# Altium footprint library Plain Ji_PCB_Lib.PcbLib: 31 footprints (part 1 of 2)
Each footprint in its own frame and in the unit in brackets; x right, y up, seen from the top. Pads: shape width x height; smd on the part's side, far side on the other; paste and mask are expansions set on the pad; w line width, h text height; cw(c..) or ccw(c..) is an arc to the next point about the centre after c.
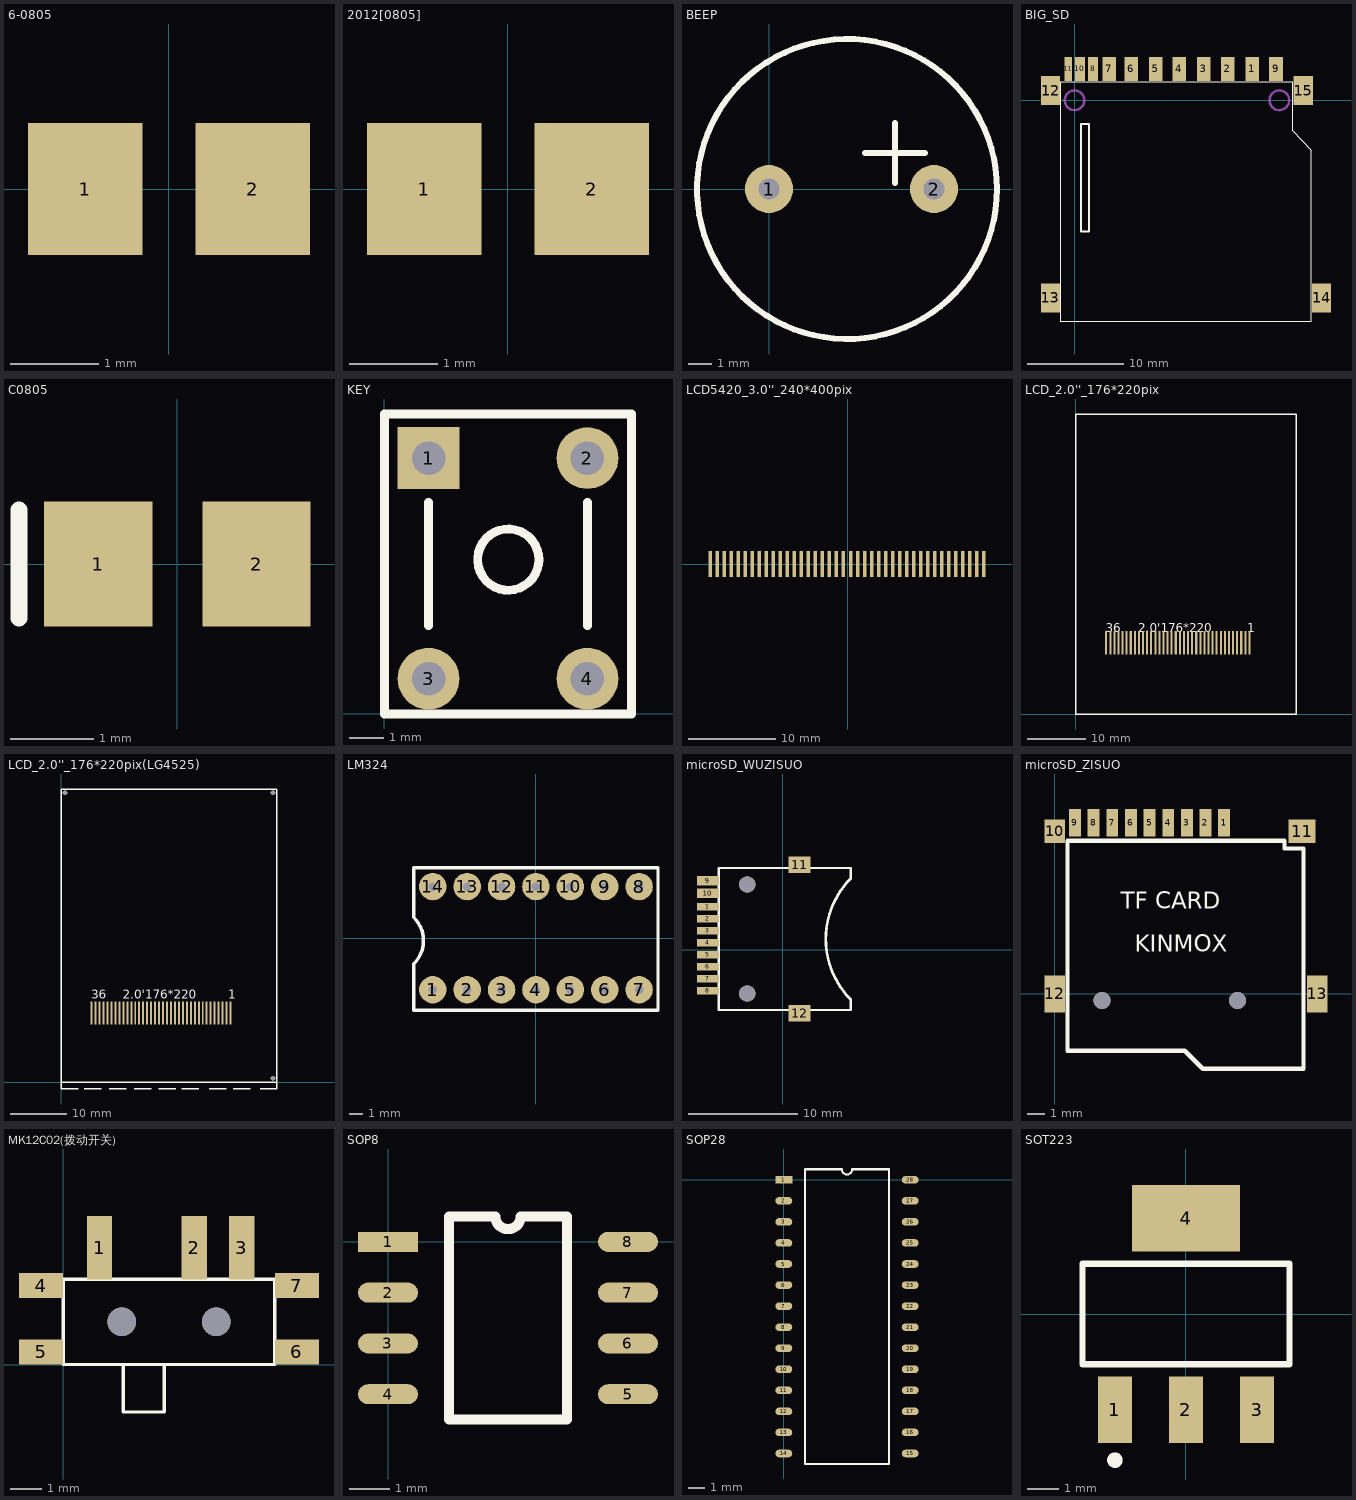
[diagram p0: the footprints below, top view; thin cyan lines are the x and y axes]

## 6-0805 [mm]
pads (2):
  rect 1.3x1.5 smd: 1(-0.95,0) 2(0.95,0)

## 2012[0805] [mm]
pads (2):
  rect 1.3x1.5 smd: 1(-0.95,0) 2(0.95,0)

## BEEP [mil]
pads (2):
  round 80 hole 35: 1(0,0) 2(275,0)
Top Overlay:
  circle w10: c130,0 r250
  lines w10: 160,60 260,60 ; 210,10 210,110

## BIG_SD [mm]
pads (15):
  rect 1.4x2.5 smd: 1(18.388,3.239) 2(15.888,3.239) 3(13.388,3.239) 4(10.863,3.239) 5(8.388,3.239) 6(5.863,3.239) 7(3.613,3.239) 9(20.863,3.239)
  rect 1x2.5 smd: 8(1.913,3.239) 10(0.563,3.239)
  rect 0.8x2.5 smd: 11(-0.662,3.239)
  rect 2x3 smd: 12(-2.486,0.989) 13(-2.491,-20.454) 14(25.576,-20.454) 15(23.682,0.989)
Top Overlay:
  lines w0.127: -1.475,-22.867 24.51,-22.867 24.51,-5.163 ; -1.424,-22.867 -1.424,1.924 22.615,1.924 22.615,-0.909 ; -1.418,-17.834 -1.418,-15.334 ; 22.615,1.325 22.615,-3.175 24.51,-5.175
  lines w0.2: 0.651,-13.61 0.651,-2.46 0.671,-2.44 1.491,-2.44 1.491,-13.61 0.651,-13.61
Mechanical 1:
  circle w0.254: c21.209,0 r1.016
  circle w0.254: c0,0 r1.016

## C0805 [mm]
pads (2):
  rect 1.3x1.5 smd: 1(-0.95,0) 2(0.95,0)
Top Overlay:
  lines w0.2: -1.9,-0.65 -1.9,0.65

## KEY [mil]
pads (4):
  rect 70x70 hole 38: 1(50,290)
  round 70 hole 38: 2(230,290) 3(50,40) 4(230,40)
Top Overlay:
  circle w10: c140.31,175 r34.69
  lines w10: 50,100 50,240 ; 230,100 230,240 ; 0,0 0,340 280,340 280,0 0,0

## LCD5420_3.0''_240*400pix [mm]
pads (40):
  rect 0.4x3 smd: 1(-15.7,0) 2(-14.9,0) 3(-14.1,0) 4(-13.3,0) 5(-12.5,0) 6(-11.7,0) 7(-10.9,0) 8(-10.1,0) 9(-9.3,0) 10(-8.5,0) 11(-7.7,0) 12(-6.9,0) 13(-6.1,0) 14(-5.3,0) 15(-4.5,0) 16(-3.7,0) 17(-2.9,0) 18(-2.1,0) 19(-1.3,0) 20(-0.5,0) 21(0.3,0) 22(1.1,0) 23(1.9,0) 24(2.7,0) 25(3.5,0) 26(4.3,0) 27(5.1,0) 28(5.9,0) 29(6.7,0) 30(7.5,0) 31(8.3,0) 32(9.1,0) 33(9.9,0) 34(10.7,0) 35(11.5,0) 36(12.3,0) 37(13.1,0) 38(13.9,0) 39(14.7,0) 40(15.5,0)

## LCD_2.0''_176*220pix [mm]
pads (36):
  rect 0.35x4 smd: 1(29.69,12.2) 2(28.99,12.2) 3(28.29,12.2) 4(27.59,12.2) 5(26.89,12.2) 6(26.19,12.2) 7(25.49,12.2) 8(24.79,12.2) 9(24.09,12.2) 10(23.39,12.2) 11(22.69,12.2) 12(21.99,12.2) 13(21.29,12.2) 14(20.59,12.2) 15(19.89,12.2) 16(19.19,12.2) 17(18.49,12.2) 18(17.79,12.2) 19(17.09,12.2) 20(16.39,12.2) 21(15.69,12.2) 22(14.99,12.2) 23(14.29,12.2) 24(13.59,12.2) 25(12.89,12.2) 26(12.19,12.2) 27(11.49,12.2) 28(10.79,12.2) 29(10.09,12.2) 30(9.39,12.2) 31(8.69,12.2) 32(7.99,12.2) 33(7.29,12.2) 34(6.59,12.2) 35(5.89,12.2) 36(5.19,12.2)
Top Overlay:
  lines w0.254: 0,51.3 0,0 37.68,0 37.68,51.3 ; 0,51.308 37.68,51.308
  text "1" at 29.3,14 h1.52
  text "36" at 5.1,14 h1.52
  text "2.0'176*220" at 10.7,14 h1.52

## LCD_2.0''_176*220pix(LG4525) [mm]
pads (36):
  rect 0.35x4 smd: 1(29.89,12.2) 2(29.19,12.2) 3(28.49,12.2) 4(27.79,12.2) 5(27.09,12.2) 6(26.39,12.2) 7(25.69,12.2) 8(24.99,12.2) 9(24.29,12.2) 10(23.59,12.2) 11(22.89,12.2) 12(22.19,12.2) 13(21.49,12.2) 14(20.79,12.2) 15(20.09,12.2) 16(19.39,12.2) 17(18.69,12.2) 18(17.99,12.2) 19(17.29,12.2) 20(16.59,12.2) 21(15.89,12.2) 22(15.19,12.2) 23(14.49,12.2) 24(13.79,12.2) 25(13.09,12.2) 26(12.39,12.2) 27(11.69,12.2) 28(10.99,12.2) 29(10.29,12.2) 30(9.59,12.2) 31(8.89,12.2) 32(8.19,12.2) 33(7.49,12.2) 34(6.79,12.2) 35(6.09,12.2) 36(5.39,12.2)
via 0.7,51 diameter 0.8 hole 0.8
via 37.38,0.7 diameter 0.8 hole 0.8
via 37.38,51 diameter 0.8 hole 0.8
Top Overlay:
  lines w0.254: 3,-1.2 0,-1.2 0,0 ; 4.1,-1.2 7.1,-1.2 ; 8.5,-1.2 11.5,-1.2 ; 12.9,-1.2 15.9,-1.2 ; 17.2,-1.2 20.2,-1.2 ; 21.3,-1.2 24.3,-1.2 ; 26.1,-1.2 29.1,-1.2 ; 30.4,-1.2 33.4,-1.2 ; 35.1,-1.2 38.08,-1.2 38.08,0 ; 0,0 38.08,0 ; 0,0 0,51.7 38.08,51.7 38.08,0
  text "2.0'176*220" at 10.9,14.7 h1.52
  text "36" at 5.3,14.7 h1.52
  text "1" at 29.5,14.7 h1.52

## LM324 [mil]
pads (14):
  round 80 hole 25: 1(-300,-150) 2(-200,-150) 3(-100,-150) 4(0,-150) 5(100,-150) 6(200,-150) 7(300,-150) 8(300,150) 9(200,150) 10(100,150) 11(0,150) 12(-100,150) 13(-200,150) 14(-300,150)
Top Overlay:
  lines w10: -355,-210 -355,-74.54 ccw(c-422.27,-7.27) -355,60 -355,205 355,205 355,-210 -355,-210

## microSD_WUZISUO [mm]
pads (14):
  rect 2x0.7 smd: 1(-6.848,3.913) 2(-6.848,2.812) 3(-6.848,1.713) 4(-6.848,0.612) 5(-6.848,-0.487) 6(-6.848,-1.587) 7(-6.848,-2.687) 8(-6.848,-3.787)
  rect 2x0.85 smd: 9(-6.848,6.313) 10(-6.848,5.162)
  rect 2x1.5 smd: 11(1.552,7.783) 12(1.552,-5.857)
  round 1.5 hole 1.5 unplated: ""(-3.248,-4.037)
  round 1.5 hole 1.5: ""(-3.248,5.962)
Top Overlay:
  lines w0.2: 6.252,-4.587 6.252,-5.552 -5.848,-5.552 -5.848,7.478 6.252,7.478 6.252,6.513
  lines w0.254: 6.252,-4.587 cw(c11.802,0.963) 6.252,6.513

## microSD_ZISUO [mm]
pads (13):
  rect 0.7x1.6 smd: 1(10,10.1) 2(8.9,10.1) 3(7.8,10.1) 4(6.7,10.1) 5(5.6,10.1) 6(4.5,10.1) 7(3.4,10.1) 8(2.3,10.1) 9(1.2,10.1)
  rect 1.2x1.4 smd: 10(0,9.6)
  rect 1.6x1.4 smd: 11(14.6,9.6)
  rect 1.2x2.2 smd: 12(0,0) 13(15.5,0)
via 2.8,-0.4 diameter 1 hole 1
via 10.8,-0.4 diameter 1 hole 1
Top Overlay:
  lines w0.254: 0.762,-3.353 0.762,9.042 13.564,9.042 13.564,8.585 14.681,8.585 14.681,-4.42 8.738,-4.42 7.671,-3.353 0.762,-3.353
  text "TF CARD" at 3.912,5.029 h1
  text "KINMOX" at 4.724,2.489 h1

## MK12C02(拨动开关) [mm]
pads (7):
  rect 0.8x2 smd: 1(1.15,3.7) 2(4.15,3.7) 3(5.65,3.7)
  rect 1.4x0.8 smd: 4(-0.7,2.5) 5(-0.7,0.4) 6(7.4,0.4) 7(7.4,2.5)
via 1.85,1.35 diameter 0.9 hole 0.9
via 4.85,1.35 diameter 0.9 hole 0.9
Top Overlay:
  lines w0.1: 1.9,0 1.9,-1.5 3.2,-1.5 3.2,0 ; 0,0 0,2.7 6.7,2.7 6.7,0 0,0

## SOP8 [mm] "25X16"
pads (8):
  rect 1.5x0.5 smd: 1(0,0)
  oval 1.5x0.5 smd: 2(0,-1.27) 3(0,-2.54) 4(0,-3.81) 5(6,-3.81) 6(6,-2.54) 7(6,-1.27) 8(6,0)
Top Overlay:
  lines w0.254: 1.524,-4.445 1.524,0.635 2.683,0.635 ccw(c3,0.635) 3.317,0.635 4.476,0.635 4.476,-4.445 1.524,-4.445

## SOP28 [mil]
pads (28):
  rect 40x18 smd: 1(0,0)
  oval 40x18 smd: 2(0,-50) 3(0,-100) 4(0,-150) 5(0,-200) 6(0,-250) 7(0,-300) 8(0,-350) 9(0,-400) 10(0,-450) 11(0,-500) 12(0,-550) 13(0,-600) 14(0,-650) 15(300,-650) 16(300,-600) 17(300,-550) 18(300,-500) 19(300,-450) 20(300,-400) 21(300,-350) 22(300,-300) 23(300,-250) 24(300,-200) 25(300,-150) 26(300,-100) 27(300,-50) 28(300,0)
Top Overlay:
  lines w5: 50,-675 250,-675 250,25 162.5,25 cw(c150,25) 137.5,25 50,25 50,-675

## SOT223 [mm]
pads (4):
  rect 1.1x2.15 smd: 1(-2.3,-3.1) 2(0,-3.1) 3(2.3,-3.1)
  rect 3.5x2.15 smd: 4(0,3.1)
Top Overlay:
  circle w0.25: c-2.3,-4.725 r0.125
  lines w0.2: -3.35,-1.625 3.35,-1.625 3.35,1.625 -3.35,1.625 -3.35,-1.625